# Altium footprint library ParaLight.PcbLib: 3 footprints
Each footprint in its own frame and in the unit in brackets; x right, y up, seen from the top. Pads: shape width x height; smd on the part's side, far side on the other; paste and mask are expansions set on the pad; w line width, h text height; cw(c..) or ccw(c..) is an arc to the next point about the centre after c.
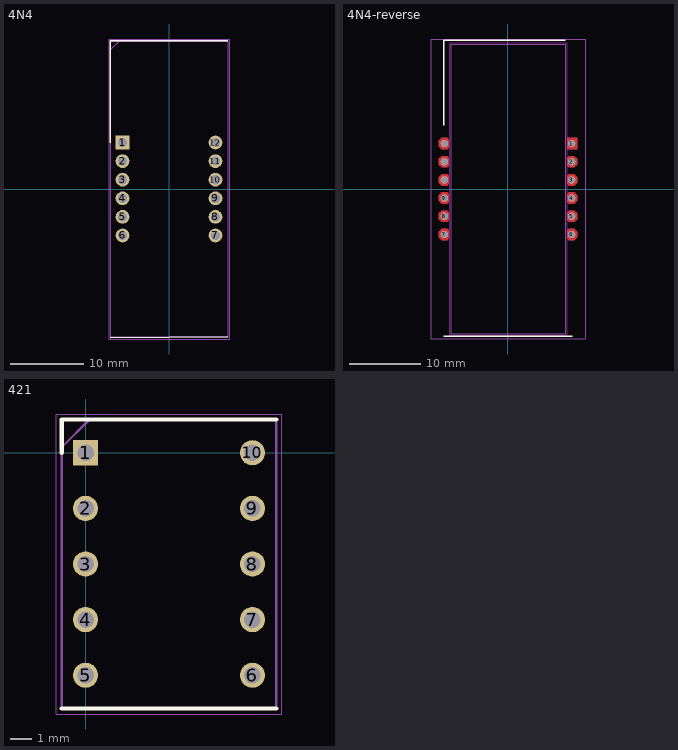
[diagram p0: the footprints below, top view; thin cyan lines are the x and y axes]

## 4N4 [mm]
pads (12):
  rect 1.875x1.875 hole 1.25: 1(-6.35,6.35)
  round 1.875 hole 1.25: 2(-6.35,3.81) 3(-6.35,1.27) 4(-6.35,-1.27) 5(-6.35,-3.81) 6(-6.35,-6.35) 7(6.35,-6.35) 8(6.35,-3.81) 9(6.35,-1.27) 10(6.35,1.27) 11(6.35,3.81) 12(6.35,6.35)
Top Overlay:
  lines w0.2: -8,-20.3 8,-20.2 ; -8,6.35 -8,20.25 8,20.25
Mechanical 13:
  lines w0.1: -8,19 -6.73,20.27 ; -8,-20.2 -8,20.2 8,20.2 8,-20.2 -8,-20.2
Mechanical 15:
  lines w0.05: -8.25,-20.5 -8.25,20.5 8.25,20.5 8.25,-20.5 -8.25,-20.5
3D body "A4N4E.STEP": height 7, standoff -11, extent -8,-20.2 8,20.2

## 4N4-reverse [mm]
pads (12):
  round 1.025 hole 1: 1(8.89,6.35) 2(8.89,3.81) 3(8.89,1.27) 4(8.89,-1.27) 5(8.89,-3.81) 6(8.89,-6.35) 7(-8.89,-6.35) 8(-8.89,-3.81) 9(-8.89,-1.27) 10(-8.89,1.27) 11(-8.89,3.81) 12(-8.89,6.35)
Top Layer:
  region: -9.29,5.55 -9.69,5.95 -9.69,6.75 -9.29,7.15 -8.49,7.15 -8.25,6.91 -8.25,5.79 -8.49,5.55
  region: 8.25,7.15 8.25,5.55 9.69,5.55 9.69,7.15
  region: -9.29,-7.15 -9.69,-6.75 -9.69,-5.95 -9.29,-5.55 -8.49,-5.55 -8.25,-5.79 -8.25,-6.91 -8.49,-7.15
  region: -9.29,-4.61 -9.69,-4.21 -9.69,-3.41 -9.29,-3.01 -8.49,-3.01 -8.25,-3.25 -8.25,-4.37 -8.49,-4.61
  region: -9.29,-2.07 -9.69,-1.67 -9.69,-0.87 -9.29,-0.47 -8.49,-0.47 -8.25,-0.71 -8.25,-1.83 -8.49,-2.07
  region: -9.29,0.47 -9.69,0.87 -9.69,1.67 -9.29,2.07 -8.49,2.07 -8.25,1.83 -8.25,0.71 -8.49,0.47
  region: 8.49,3.01 8.25,3.25 8.25,4.37 8.49,4.61 9.29,4.61 9.69,4.21 9.69,3.41 9.29,3.01
  region: 8.49,0.47 8.25,0.71 8.25,1.83 8.49,2.07 9.29,2.07 9.69,1.67 9.69,0.87 9.29,0.47
  region: 8.49,-2.07 8.25,-1.83 8.25,-0.71 8.49,-0.47 9.29,-0.47 9.69,-0.87 9.69,-1.67 9.29,-2.07
  region: 8.49,-4.61 8.25,-4.37 8.25,-3.25 8.49,-3.01 9.29,-3.01 9.69,-3.41 9.69,-4.21 9.29,-4.61
  region: 8.49,-7.15 8.25,-6.91 8.25,-5.79 8.49,-5.55 9.29,-5.55 9.69,-5.95 9.69,-6.75 9.29,-7.15
  region: -9.29,3.01 -9.69,3.41 -9.69,4.21 -9.29,4.61 -8.49,4.61 -8.25,4.37 -8.25,3.25 -8.49,3.01
Bottom Layer:
  region: -9.29,5.55 -9.69,5.95 -9.69,6.75 -9.29,7.15 -8.49,7.15 -8.25,6.91 -8.25,5.79 -8.49,5.55
  region: 8.25,7.15 8.25,5.55 9.69,5.55 9.69,7.15
  region: -9.29,-7.15 -9.69,-6.75 -9.69,-5.95 -9.29,-5.55 -8.49,-5.55 -8.25,-5.79 -8.25,-6.91 -8.49,-7.15
  region: -9.29,-4.61 -9.69,-4.21 -9.69,-3.41 -9.29,-3.01 -8.49,-3.01 -8.25,-3.25 -8.25,-4.37 -8.49,-4.61
  region: -9.29,-2.07 -9.69,-1.67 -9.69,-0.87 -9.29,-0.47 -8.49,-0.47 -8.25,-0.71 -8.25,-1.83 -8.49,-2.07
  region: -9.29,0.47 -9.69,0.87 -9.69,1.67 -9.29,2.07 -8.49,2.07 -8.25,1.83 -8.25,0.71 -8.49,0.47
  region: 8.49,3.01 8.25,3.25 8.25,4.37 8.49,4.61 9.29,4.61 9.69,4.21 9.69,3.41 9.29,3.01
  region: 8.49,0.47 8.25,0.71 8.25,1.83 8.49,2.07 9.29,2.07 9.69,1.67 9.69,0.87 9.29,0.47
  region: 8.49,-2.07 8.25,-1.83 8.25,-0.71 8.49,-0.47 9.29,-0.47 9.69,-0.87 9.69,-1.67 9.29,-2.07
  region: 8.49,-4.61 8.25,-4.37 8.25,-3.25 8.49,-3.01 9.29,-3.01 9.69,-3.41 9.69,-4.21 9.29,-4.61
  region: 8.49,-7.15 8.25,-6.91 8.25,-5.79 8.49,-5.55 9.29,-5.55 9.69,-5.95 9.69,-6.75 9.29,-7.15
  region: -9.29,3.01 -9.69,3.41 -9.69,4.21 -9.29,4.61 -8.49,4.61 -8.25,4.37 -8.25,3.25 -8.49,3.01
Top Overlay:
  lines w0.2: -9,-20.6 9,-20.6 ; -9,8.89 -9,20.75 8,20.75
Keep-Out Layer:
  lines w0.1: -8.2,-20.4 8.2,-20.4 8.2,20.4 -8.2,20.4 -8.2,-20.4
Mechanical 13:
  lines w0.1: -8,-20.2 8,-20.2 8,20.2 -8,20.2 -8,-20.2
Mechanical 15:
  lines w0.05: -10.795,-20.955 10.795,-20.955 10.795,20.955 -10.795,20.955 -10.795,-20.955
3D body "A4N4E-REVERSED.STEP": height 5.39, standoff -3, extent -8.895,-20.2 8.895,20.2

## 421 [mm]
pads (10):
  rect 1.15x1.15 hole 0.75: 1(0,0)
  round 1.15 hole 0.75: 2(0,-2.54) 3(0,-5.08) 4(0,-7.62) 5(0,-10.16) 6(7.62,-10.16) 7(7.62,-7.62) 8(7.62,-5.08) 9(7.62,-2.54) 10(7.62,0)
Top Overlay:
  lines w0.2: -1.09,-11.68 8.71,-11.68 ; -1.09,0 -1.09,1.52 8.71,1.52
Mechanical 13:
  lines w0.1: -1.09,0.25 0.18,1.52 ; -1.09,-11.68 8.71,-11.68 8.71,1.52 -1.09,1.52 -1.09,-11.68
Mechanical 15:
  lines w0.05: -1.34,-11.93 8.96,-11.93 8.96,1.77 -1.34,1.77 -1.34,-11.93
3D body "INND-TS40RCB.stp": height 6.36, standoff -5.4, extent -1.005,-11.53 8.625,1.37